# Altium schematic symbol library CONN-DDR4-SODIMM.SchLib: 1 symbol
Pins are listed as number, name and electrical type; pins without a type are passive.

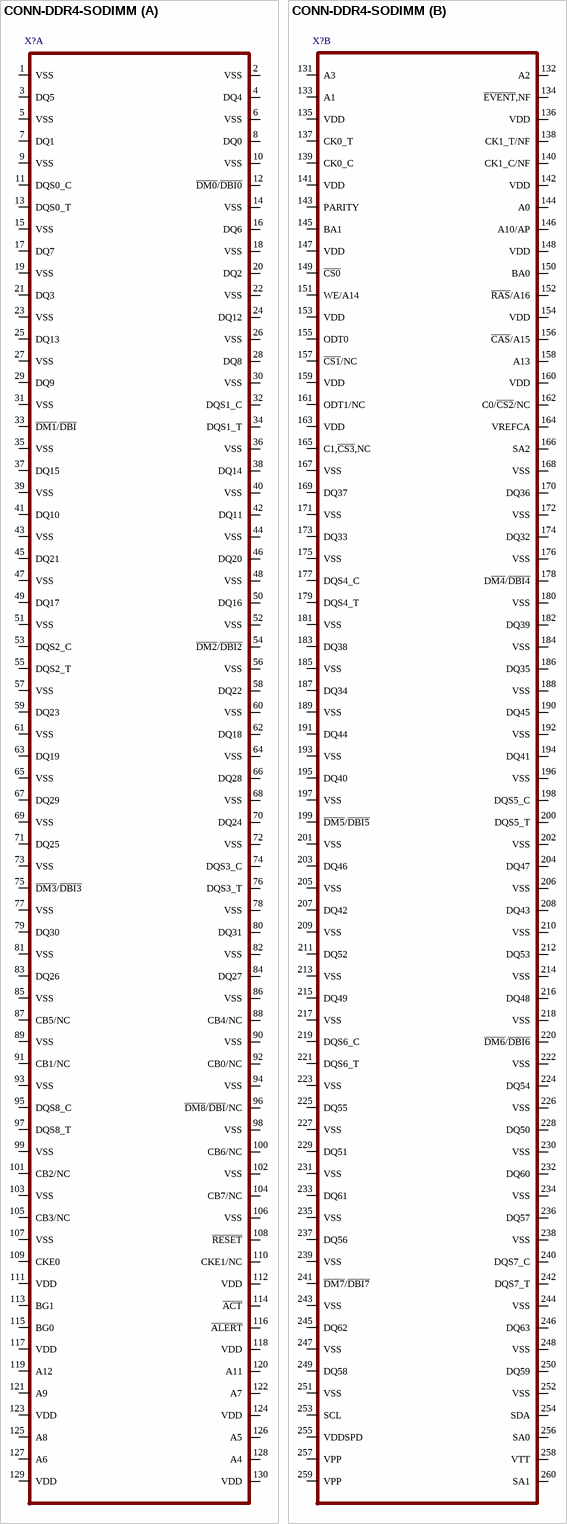
[diagram p0: symbol CONN-DDR4-SODIMM]

## CONN-DDR4-SODIMM
designator X?
part A pins: 1 VSS, 2 VSS, 3 DQ5, 4 DQ4, 5 VSS, 6 VSS, 7 DQ1, 8 DQ0, 9 VSS, 10 VSS, 11 DQS0_C, 12 ~{DM0}/~{DBI0}, 13 DQS0_T, 14 VSS, 15 VSS, 16 DQ6, 17 DQ7, 18 VSS, 19 VSS, 20 DQ2, 21 DQ3, 22 VSS, 23 VSS, 24 DQ12, 25 DQ13, 26 VSS, 27 VSS, 28 DQ8, 29 DQ9, 30 VSS, 31 VSS, 32 DQS1_C, 33 ~{DM1}/~{DBI}, 34 DQS1_T, 35 VSS, 36 VSS, 37 DQ15, 38 DQ14, 39 VSS, 40 VSS, 41 DQ10, 42 DQ11, 43 VSS, 44 VSS, 45 DQ21, 46 DQ20, 47 VSS, 48 VSS, 49 DQ17, 50 DQ16, 51 VSS, 52 VSS, 53 DQS2_C, 54 ~{DM2}/~{DBI2}, 55 DQS2_T, 56 VSS, 57 VSS, 58 DQ22, 59 DQ23, 60 VSS, 61 VSS, 62 DQ18, 63 DQ19, 64 VSS, 65 VSS, 66 DQ28, 67 DQ29, 68 VSS, 69 VSS, 70 DQ24, 71 DQ25, 72 VSS, 73 VSS, 74 DQS3_C, 75 ~{DM3}/~{DBI3}, 76 DQS3_T, 77 VSS, 78 VSS, 79 DQ30, 80 DQ31, 81 VSS, 82 VSS, 83 DQ26, 84 DQ27, 85 VSS, 86 VSS, 87 CB5/NC, 88 CB4/NC, 89 VSS, 90 VSS, 91 CB1/NC, 92 CB0/NC, 93 VSS, 94 VSS, 95 DQS8_C, 96 ~{DM8}/~{DBI}/NC, 97 DQS8_T, 98 VSS, 99 VSS, 100 CB6/NC, 101 CB2/NC, 102 VSS, 103 VSS, 104 CB7/NC, 105 CB3/NC, 106 VSS, 107 VSS, 108 ~{RESET}, 109 CKE0, 110 CKE1/NC, 111 VDD, 112 VDD, 113 BG1, 114 ~{ACT}, 115 BG0, 116 ~{ALERT}, 117 VDD, 118 VDD, 119 A12, 120 A11, 121 A9, 122 A7, 123 VDD, 124 VDD, 125 A8, 126 A5, 127 A6, 128 A4, 129 VDD, 130 VDD
part B pins: 131 A3, 132 A2, 133 A1, 134 ~{EVENT},NF, 135 VDD, 136 VDD, 137 CK0_T, 138 CK1_T/NF, 139 CK0_C, 140 CK1_C/NF, 141 VDD, 142 VDD, 143 PARITY, 144 A0, 145 BA1, 146 A10/AP, 147 VDD, 148 VDD, 149 ~{CS0}, 150 BA0, 151 WE/A14, 152 ~{RAS}/A16, 153 VDD, 154 VDD, 155 ODT0, 156 ~{CAS}/A15, 157 ~{CS1}/NC, 158 A13, 159 VDD, 160 VDD, 161 ODT1/NC, 162 C0/~{CS2}/NC, 163 VDD, 164 VREFCA, 165 C1,~{CS3},NC, 166 SA2, 167 VSS, 168 VSS, 169 DQ37, 170 DQ36, 171 VSS, 172 VSS, 173 DQ33, 174 DQ32, 175 VSS, 176 VSS, 177 DQS4_C, 178 D~{M4}/~{DBI4}, 179 DQS4_T, 180 VSS, 181 VSS, 182 DQ39, 183 DQ38, 184 VSS, 185 VSS, 186 DQ35, 187 DQ34, 188 VSS, 189 VSS, 190 DQ45, 191 DQ44, 192 VSS, 193 VSS, 194 DQ41, 195 DQ40, 196 VSS, 197 VSS, 198 DQS5_C, 199 ~{DM5}/~{DBI5}, 200 DQS5_T, 201 VSS, 202 VSS, 203 DQ46, 204 DQ47, 205 VSS, 206 VSS, 207 DQ42, 208 DQ43, 209 VSS, 210 VSS, 211 DQ52, 212 DQ53, 213 VSS, 214 VSS, 215 DQ49, 216 DQ48, 217 VSS, 218 VSS, 219 DQS6_C, 220 ~{DM6}/~{DBI6}, 221 DQS6_T, 222 VSS, 223 VSS, 224 DQ54, 225 DQ55, 226 VSS, 227 VSS, 228 DQ50, 229 DQ51, 230 VSS, 231 VSS, 232 DQ60, 233 DQ61, 234 VSS, 235 VSS, 236 DQ57, 237 DQ56, 238 VSS, 239 VSS, 240 DQS7_C, 241 ~{DM7}/~{DBI7}, 242 DQS7_T, 243 VSS, 244 VSS, 245 DQ62, 246 DQ63, 247 VSS, 248 VSS, 249 DQ58, 250 DQ59, 251 VSS, 252 VSS, 253 SCL, 254 SDA, 255 VDDSPD, 256 SA0, 257 VPP, 258 VTT, 259 VPP, 260 SA1